# Altium schematic symbol library L80227.Schlib: 1 symbol
Pins are listed as number, name and electrical type; pins without a type are passive.

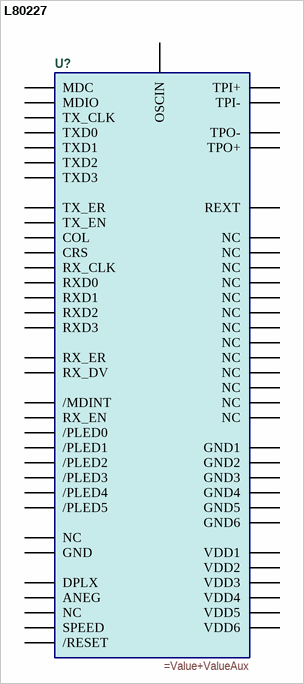
[diagram p0: symbol L80227]

## L80227
designator U?
=Description
pins: 1 NC, 2 /PLED4, 3 /PLED2, 4 /PLED3, 5 NC, 6 GND3, 7 VDD3, 8 VDD4, 9 /MDINT, 10 MDC, 11 MDIO, 12 COL, 13 CRS, 14 RX_DV, 15 NC, 16 NC, 17 NC, 18 RX_ER, 19 RXD3, 20 RXD2, 21 RXD1, 22 RXD0, 23 GND5, 24 NC, 25 VDD5, 26 RX_CLK, 27 RX_EN, 28 SPEED, 29 DPLX, 30 ANEG, 31 GND6, 32 VDD6, 33 NC, 34 TX_CLK, 35 TXD0, 36 TXD1, 37 TXD2, 38 TXD3, 39 TX_ER, 40 TX_EN, 41 GND4, 42 OSCIN, 43 NC, 44 /RESET, 45 NC, 46 NC, 47 NC, 48 NC, 49 NC, 50 REXT, 51 NC, 52 GND1, 53 GND, 54 TPO+, 55 TPO-, 56 VDD1, 57 VDD2, 58 TPI+, 59 TPI-, 60 GND2, 61 /PLED0, 62 /PLED1, 63 /PLED5, 64 NC